# Altium footprint library 医疗床16x16.PcbLib: 31 footprints (part 2 of 2)
Each footprint in its own frame and in the unit in brackets; x right, y up, seen from the top. Pads: shape width x height; smd on the part's side, far side on the other; paste and mask are expansions set on the pad; w line width, h text height; cw(c..) or ccw(c..) is an arc to the next point about the centre after c.
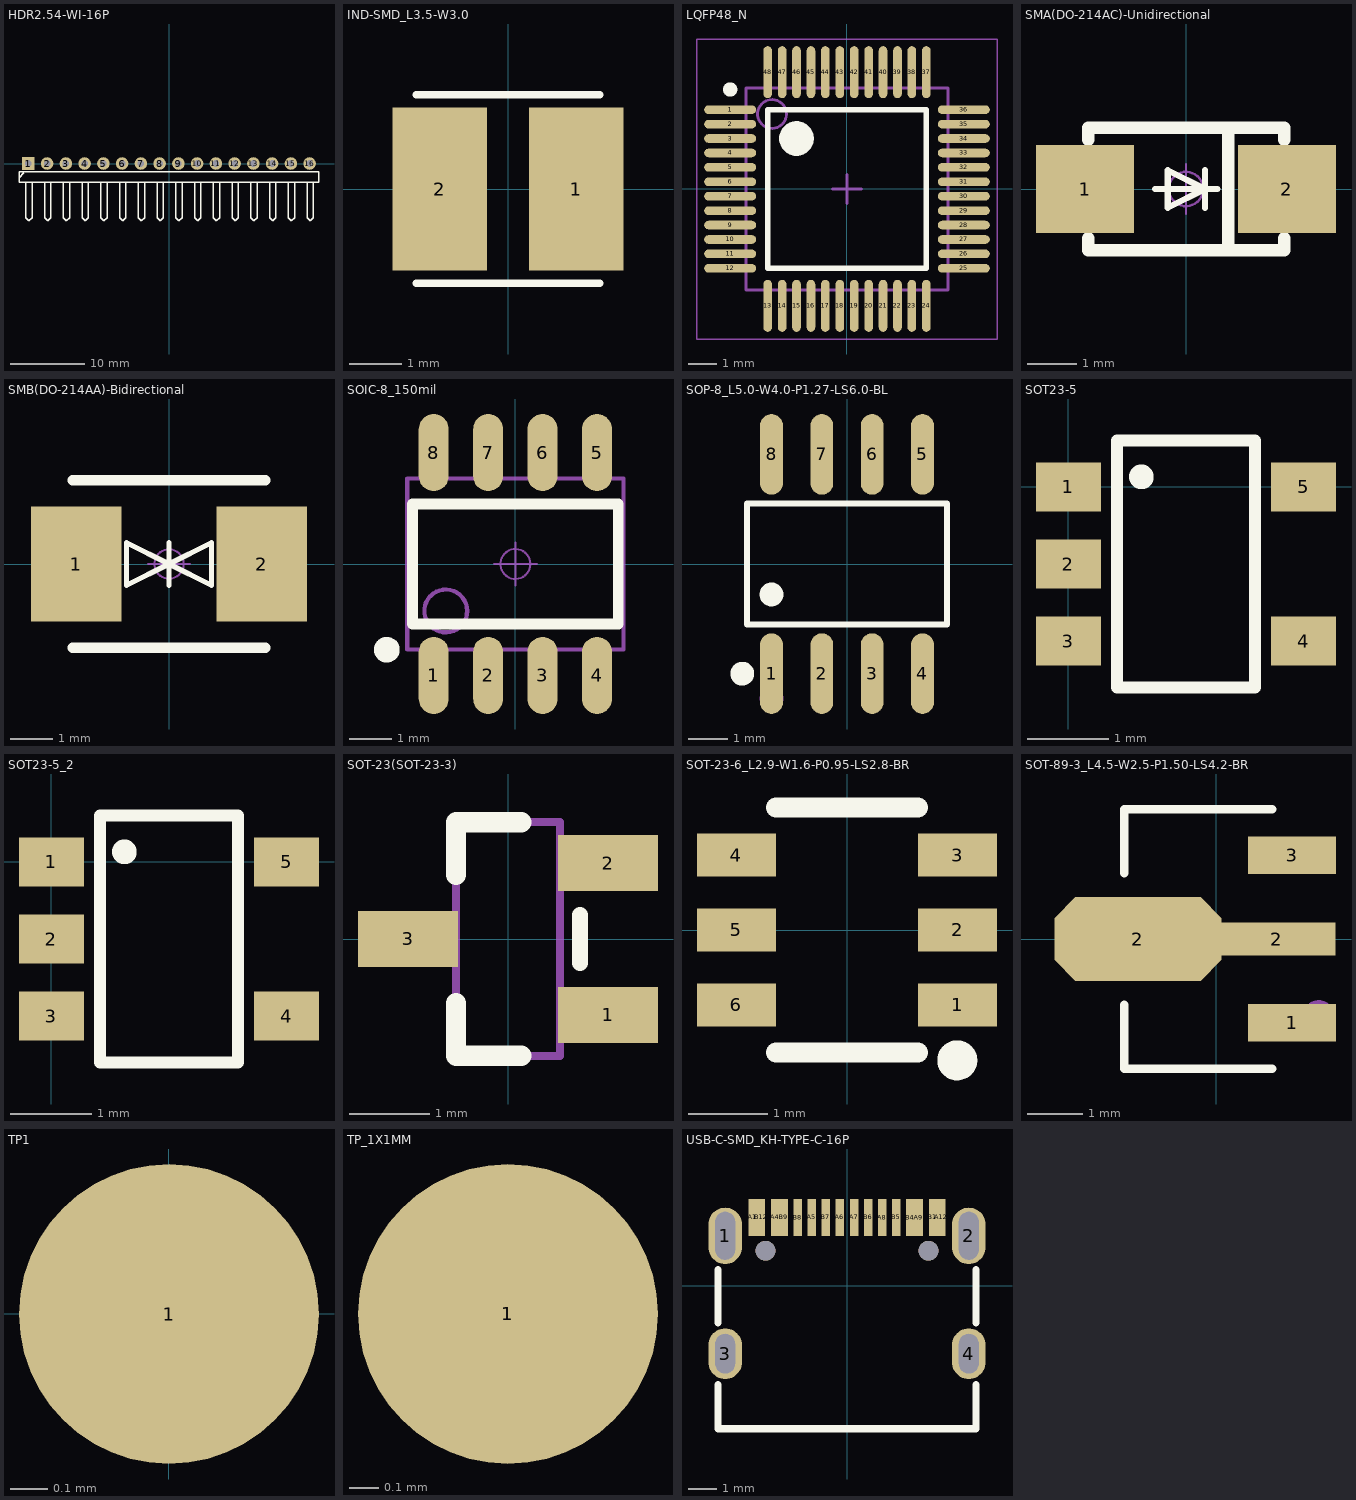
[diagram p1: the footprints below, top view; thin cyan lines are the x and y axes]

## HDR2.54-WI-16P [mm]
pads (16):
  rect 1.7x1.7 hole 0.9: 1(-19.05,0)
  round 1.7 hole 0.9: 2(-16.51,0) 3(-13.97,0) 4(-11.43,0) 5(-8.89,0) 6(-6.35,0) 7(-3.81,0) 8(-1.27,0) 9(1.27,0) 10(3.81,0) 11(6.35,0) 12(8.89,0) 13(11.43,0) 14(13.97,0) 15(16.51,0) 16(19.05,0)
Top Overlay:
  lines w0.2: -20.32,-1.905 -19.685,-1.27 ; -19.398,-2.54 -19.398,-7.332 -18.975,-7.755 -18.551,-7.332 -18.542,-7.323 ; -18.551,-7.323 -18.551,-2.54 ; -16.858,-2.54 -16.858,-7.332 -16.435,-7.755 -16.011,-7.332 ; -16.011,-7.323 -16.011,-2.54 ; -14.318,-2.54 -14.318,-7.332 -13.895,-7.755 -13.471,-7.332 ; -13.471,-7.323 -13.471,-2.54 ; -11.778,-2.54 -11.778,-7.332 -11.355,-7.755 -10.931,-7.332 ; -10.931,-7.323 -10.931,-2.54 ; -9.238,-2.54 -9.238,-7.332 -8.815,-7.755 -8.391,-7.332 ; -8.391,-7.323 -8.391,-2.54 ; -6.698,-2.54 -6.698,-7.332 -6.275,-7.755 -5.851,-7.332 ; -5.851,-7.323 -5.851,-2.54 ; -4.158,-2.54 -4.158,-7.332 -3.735,-7.755 -3.311,-7.332 ; -3.311,-7.323 -3.311,-2.54 ; -1.618,-2.54 -1.618,-7.332 -1.195,-7.755 -0.771,-7.332 ; -0.771,-7.323 -0.771,-2.54 ; 0.922,-2.54 0.922,-7.332 1.345,-7.755 1.769,-7.332 ; 1.769,-7.323 1.769,-2.54 ; 3.462,-2.54 3.462,-7.332 3.885,-7.755 4.309,-7.332 ; 4.309,-7.323 4.309,-2.54 ; 6.002,-2.54 6.002,-7.332 6.425,-7.755 6.849,-7.332 ; 6.849,-7.323 6.849,-2.54 ; 8.542,-2.54 8.542,-7.332 8.965,-7.755 9.389,-7.332 ; 9.389,-7.323 9.389,-2.54 ; 11.082,-2.54 11.082,-7.332 11.505,-7.755 11.929,-7.332 ; 11.929,-7.323 11.929,-2.54 ; 13.622,-2.54 13.622,-7.332 14.045,-7.755 14.469,-7.332 ; 14.469,-7.323 14.469,-2.54 ; 16.162,-2.54 16.162,-7.332 16.585,-7.755 17.009,-7.332 ; 17.009,-7.323 17.009,-2.54 ; 18.702,-2.54 18.702,-7.332 19.125,-7.755 19.549,-7.332 ; 19.549,-7.323 19.549,-2.54 ; -20.32,-2.54 -20.32,-1.143 -18.542,-1.143 20.32,-1.143 20.32,-2.54 -20.32,-2.54
3D body "HDR2.54-1P_H.STEP": height 4.85, standoff -3, extent -20.32,-7.77 -17.78,1.27
3D body "HDR2.54-1P_H.STEP": height 4.85, standoff -3, extent -17.78,-7.77 -15.24,1.27
3D body "HDR2.54-1P_H.STEP": height 4.85, standoff -3, extent -15.24,-7.77 -12.7,1.27
3D body "HDR2.54-1P_H.STEP": height 4.85, standoff -3, extent -12.7,-7.77 -10.16,1.27
3D body "HDR2.54-1P_H.STEP": height 4.85, standoff -3, extent -10.16,-7.77 -7.62,1.27
3D body "HDR2.54-1P_H.STEP": height 4.85, standoff -3, extent -7.62,-7.77 -5.08,1.27
3D body "HDR2.54-1P_H.STEP": height 4.85, standoff -3, extent -5.08,-7.77 -2.54,1.27
3D body "HDR2.54-1P_H.STEP": height 4.85, standoff -3, extent -2.54,-7.77 0,1.27
3D body "HDR2.54-1P_H.STEP": height 4.85, standoff -3, extent 0,-7.77 2.54,1.27
3D body "HDR2.54-1P_H.STEP": height 4.85, standoff -3, extent 2.54,-7.77 5.08,1.27
3D body "HDR2.54-1P_H.STEP": height 4.85, standoff -3, extent 5.08,-7.77 7.62,1.27
3D body "HDR2.54-1P_H.STEP": height 4.85, standoff -3, extent 7.62,-7.77 10.16,1.27
3D body "HDR2.54-1P_H.STEP": height 4.85, standoff -3, extent 10.16,-7.77 12.7,1.27
3D body "HDR2.54-1P_H.STEP": height 4.85, standoff -3, extent 12.7,-7.77 15.24,1.27
3D body "HDR2.54-1P_H.STEP": height 4.85, standoff -3, extent 15.24,-7.77 17.78,1.27
3D body "HDR2.54-1P_H.STEP": height 4.85, standoff -3, extent 17.78,-7.77 20.32,1.27

## IND-SMD_L3.5-W3.0 [mm]
pads (2):
  rect 1.8x3.12 smd: 1(1.303,0) 2(-1.303,0)
Top Overlay:
  lines w0.15: -1.75,-1.8 1.75,-1.8 ; -1.75,1.8 1.75,1.8
3D body "CD32.STEP": height 2.15, standoff 0.05, extent -1.682,-1.5 1.732,1.5

## LQFP48_N [mm]
pads (48):
  oval 1.8x0.3 smd: 1(-4.05,2.75) 2(-4.05,2.25) 3(-4.05,1.75) 4(-4.05,1.25) 5(-4.05,0.75) 6(-4.05,0.25) 7(-4.05,-0.25) 8(-4.05,-0.75) 9(-4.05,-1.25) 10(-4.05,-1.75) 11(-4.05,-2.25) 12(-4.05,-2.75) 25(4.05,-2.75) 26(4.05,-2.25) 27(4.05,-1.75) 28(4.05,-1.25) 29(4.05,-0.75) 30(4.05,-0.25) 31(4.05,0.25) 32(4.05,0.75) 33(4.05,1.25) 34(4.05,1.75) 35(4.05,2.25) 36(4.05,2.75)
  oval 0.3x1.8 smd: 13(-2.75,-4.05) 14(-2.25,-4.05) 15(-1.75,-4.05) 16(-1.25,-4.05) 17(-0.75,-4.05) 18(-0.25,-4.05) 19(0.25,-4.05) 20(0.75,-4.05) 21(1.25,-4.05) 22(1.75,-4.05) 23(2.25,-4.05) 24(2.75,-4.05) 37(2.75,4.05) 38(2.25,4.05) 39(1.75,4.05) 40(1.25,4.05) 41(0.75,4.05) 42(0.25,4.05) 43(-0.25,4.05) 44(-0.75,4.05) 45(-1.25,4.05) 46(-1.75,4.05) 47(-2.25,4.05) 48(-2.75,4.05)
Top Overlay:
  circle w0.25: c-4.05,3.45 r0.125
  circle w0.6: c-1.75,1.75 r0.3
  lines w0.2: -2.75,-2.75 -2.75,2.75 2.75,2.75 2.75,-2.75 -2.75,-2.75
Mechanical 13:
  circle w0.1: c-2.6,2.6 r0.5
  lines w0.1: -3.5,-3.5 -3.5,3.5 3.5,3.5 3.5,-3.5 -3.5,-3.5
Mechanical 15:
  lines w0.05: -5.2,-5.2 -5.2,5.2 5.2,5.2 5.2,-5.2 -5.2,-5.2
  lines w0.1: -0.5,0 0.5,0 ; 0,-0.5 0,0.5
3D body "LQFP48-7x7.STEP": height 1.45, standoff 0, extent -4.503,-4.503 4.503,4.503

## SMA(DO-214AC)-Unidirectional [mm]
pads (2):
  rect 2x1.8 smd: 1(-2.057,0) 2(2.057,0)
Top Overlay:
  lines w0.127: -0.627,0 0.643,0 ; 0.389,-0.381 0.389,0 ; 0.389,0.381 0.389,0 ; 0.389,0 -0.373,-0.381 -0.373,0 -0.373,0.381 0.389,0
  lines w0.254: -1.991,-1 -1.991,-1.25 2.007,-1.25 2.007,-1 ; -1.991,1 -1.991,1.25 2.007,1.25 2.007,1 ; 0.864,-1.245 0.864,1.245
Mechanical 15:
  circle w0.05: c0,0 r0.35
  lines w0.05: -0.5,0 0.5,0 ; 0,-0.5 0,0.5
3D body: height 1.27, standoff 0, extent -2.613,-2.591 2.461,2.489

## SMB(DO-214AA)-Bidirectional [mil]
pads (2):
  rect 85x108 smd: 1(-87,0) 2(87,0)
Top Overlay:
  lines w5: 0,-20 0,20 0,0 ; 0,0 -40,20 -40,-20 0,0 ; 0,0 40,-20 40,20 0,0
  lines w10: -90.55,-78.74 90.55,-78.74 ; -90.55,78.74 90.55,78.74
Mechanical 15:
  circle w1.97: c0,0 r13.78
  lines w1.97: -19.68,0 19.68,0 ; 0,-19.68 0,19.68
3D body: height 10, standoff 0, extent -110.23,-76.76 110.24,76.78

## SOIC-8_150mil [mm]
pads (8):
  oval 0.7x1.8 smd: 1(-1.905,-2.6) 2(-0.635,-2.6) 3(0.635,-2.6) 4(1.905,-2.6) 5(1.905,2.6) 6(0.635,2.6) 7(-0.635,2.6) 8(-1.905,2.6)
Top Overlay:
  circle w0.3: c-3,-2 r0.15
  lines w0.254: -2.4,-1.4 2.4,-1.4 2.4,1.4 -2.4,1.4 -2.4,-1.4
Mechanical 13:
  circle w0.1: c-1.625,-1.095 r0.5
  lines w0.1: -2.525,-1.995 2.525,-1.995 2.525,1.995 -2.525,1.995 -2.525,-1.995
Mechanical 15:
  circle w0.05: c0,0 r0.35
  lines w0.05: -0.5,0 0.5,0 ; 0,-0.5 0,0.5
3D body "SOP8.STEP": height 1.6, standoff 0, extent -2.51,-3.021 2.51,3.021

## SOP-8_L5.0-W4.0-P1.27-LS6.0-BL [mm]
pads (8):
  oval 0.574x2.036 smd: 1(-1.905,-2.768) 2(-0.635,-2.768) 3(0.635,-2.768) 4(1.905,-2.768) 5(1.905,2.768) 6(0.635,2.768) 7(-0.635,2.768) 8(-1.905,2.768)
Top Overlay:
  circle w0.3: c-2.644,-2.768 r0.15
  circle w0.3: c-1.905,-0.769 r0.15
  lines w0.152: -2.526,-1.521 2.526,-1.521 2.526,1.521 -2.526,1.521 -2.526,-1.521
Mechanical 15:
  circle w0.3: c-1.905,-3.398 r0.15
3D body "SOP8.STEP": height 1.6, standoff 0, extent -2.485,-2.945 2.535,3.097

## SOT23-5 [mm]
pads (5):
  rect 0.8x0.6 smd: 1(0,0) 2(0,-0.95) 3(0,-1.9) 4(2.9,-1.9) 5(2.9,0)
Top Overlay:
  circle w0.254: c0.9,0.125 r0.025
  lines w0.15: 0.6,-2.475 0.6,0.575 2.3,0.575 2.3,-2.475 0.6,-2.475
3D body "User Library-SOT23-5-2.STEP": height 1.45, standoff 0, extent 0.022,-2.415 2.822,0.485

## SOT23-5_2 [mm]
pads (5):
  rect 0.8x0.6 smd: 1(0,0) 2(0,-0.95) 3(0,-1.9) 4(2.9,-1.9) 5(2.9,0)
Top Overlay:
  circle w0.254: c0.9,0.125 r0.025
  lines w0.15: 0.6,-2.475 0.6,0.575 2.3,0.575 2.3,-2.475 0.6,-2.475
3D body "User Library-SOT23-5-2.STEP": height 1.45, standoff 0, extent 0.023,-2.415 2.822,0.485

## SOT-23(SOT-23-3) [mm]
pads (3):
  rect 1.25x0.7 smd: 1(1.25,-0.95) 2(1.25,0.95) 3(-1.25,0)
Top Overlay:
  lines w0.2: 0.9,-0.3 0.9,0.3
  lines w0.254: -0.65,-0.8 -0.65,-1.46 0.165,-1.46 ; 0.165,1.46 -0.65,1.46 ; -0.65,0.8 -0.65,1.46 ; -0.65,0.8 -0.65,1.46 ; -0.65,0.8 -0.65,1.46
Mechanical 13:
  lines w0.1: -0.65,-1.46 -0.65,1.46 ; -0.65,-1.46 0.65,-1.46 ; -0.65,-1.46 0.65,-1.46 ; -0.65,-1.46 -0.65,1.46 ; -0.65,-1.46 0.65,-1.46 ; -0.65,-1.46 -0.65,1.46 ; -0.65,1.46 0.65,1.46 ; -0.65,1.46 0.65,1.46 ; -0.65,1.46 0.65,1.46 ; 0.65,-1.46 0.65,1.46 ; 0.65,-1.46 0.65,1.46 ; 0.65,-1.46 0.65,1.46
3D body "SOT-23.step": height 1.3, standoff 0, extent -1.5,-1.5 1.5,1.5

## SOT-23-6_L2.9-W1.6-P0.95-LS2.8-BR [mm]
pads (6):
  rect 1x0.55 smd: 1(1.4,-0.95) 2(1.4,0) 3(1.4,0.95) 4(-1.4,0.95) 5(-1.4,0) 6(-1.4,-0.95)
Top Overlay:
  circle w0.254: c1.397,-1.651 r0.127
  lines w0.254: -0.9,-1.55 0.9,-1.55 ; -0.9,1.55 0.9,1.55
Mechanical 15:
  circle w0.2: c1.4,-0.95 r0.1
3D body "SOT23-6.STEP": height 1.15, standoff -0.03, extent -1.403,-1.5 1.403,1.5

## SOT-89-3_L4.5-W2.5-P1.50-LS4.2-BR [mm]
pads (4):
  rect 1.575x0.672 smd: 1(1.356,-1.5) 3(1.356,1.5)
  oct 3x1.5 smd: 2(-1.405,0)
  rect 2.1x0.6 smd: 2(1.084,0)
Top Overlay:
  lines w0.152: -1.65,-1.177 -1.65,-2.326 1.002,-2.326 ; -1.65,1.177 -1.65,2.326 1.002,2.326
Top Solder:
  region: -2.283,0.959 -0.429,0.959 -0.385,0.958 -0.34,0.955 -0.296,0.949 -0.252,0.942 -0.208,0.933 -0.165,0.921 -0.123,0.908 -0.081,0.893 -0.04,0.875 0,0.856 0.039,0.835 0.078,0.812 0.115,0.788 0.151,0.761 0.185,0.733 0.219,0.704 0.25,0.673 0.281,0.64 0.31,0.606 0.337,0.571 0.362,0.534 0.386,0.497 0.408,0.458 0.428,0.418 0.446,0.339 2.144,0.339 2.144,-0.321 0.446,-0.321 0.428,-0.401 0.408,-0.44 0.386,-0.479 0.362,-0.517 0.337,-0.553 0.31,-0.588 0.281,-0.622 0.25,-0.655 0.219,-0.686 0.185,-0.716 0.151,-0.744 0.115,-0.77 0.078,-0.795 0.039,-0.818 0,-0.839 -0.04,-0.858 -0.081,-0.875 -0.123,-0.89 -0.165,-0.904 -0.208,-0.915 -0.252,-0.925 -0.296,-0.932 -0.34,-0.937 -0.385,-0.94 -0.429,-0.941 -2.283,-0.941 -2.328,-0.94 -2.372,-0.937 -2.416,-0.932 -2.46,-0.925 -2.504,-0.915 -2.547,-0.904 -2.59,-0.89 -2.631,-0.875 -2.672,-0.858 -2.713,-0.839 -2.752,-0.818 -2.79,-0.795 -2.827,-0.77 -2.863,-0.744 -2.898,-0.716 -2.931,-0.686 -2.963,-0.655 -2.993,-0.622 -3.022,-0.588 -3.049,-0.553 -3.075,-0.517 -3.098,-0.479 -3.12,-0.44 -3.141,-0.401 -3.159,-0.36 -3.175,-0.318 -3.19,-0.276 -3.202,-0.233 -3.212,-0.19 -3.221,-0.146 -3.227,-0.102 -3.231,-0.058 -3.233,-0.013 -3.233,0.031 -3.231,0.076 -3.227,0.12 -3.221,0.164 -3.212,0.208 -3.202,0.251 -3.19,0.294 -3.175,0.336 -3.159,0.377 -3.141,0.418 -3.12,0.458 -3.098,0.497 -3.075,0.534 -3.049,0.571 -3.022,0.606 -2.993,0.64 -2.963,0.673 -2.931,0.704 -2.898,0.733 -2.863,0.761 -2.827,0.788 -2.79,0.812 -2.752,0.835 -2.713,0.856 -2.672,0.875 -2.631,0.893 -2.59,0.908 -2.547,0.921 -2.504,0.933 -2.46,0.942 -2.416,0.949 -2.372,0.955 -2.328,0.958
Mechanical 15:
  circle w0.3: c1.832,-1.397 r0.15
  circle w0.05: c-0.313,0 r0.35
  lines w0.05: -0.813,0 0.187,0 ; -0.313,-0.5 -0.313,0.5
3D body "SOT89.STEP": height 1.6, standoff 0.04, extent -2.506,-2.286 1.794,2.314

## TP1 [mm]
pads (1):
  round 0.8 smd: 1(0,0)

## TP_1X1MM [mm]
pads (1):
  round 1 smd: 1(-1267.968,-1268.501)

## USB-C-SMD_KH-TYPE-C-16P [mm]
pads (22):
  oval 1.2x2 hole 0.7 slot 1.7 at 90 deg: 1(-4.32,1.765) 2(4.32,1.765)
  oval 1.2x1.8 hole 0.7 slot 1.4 at 90 deg: 3(-4.32,-2.415) 4(4.32,-2.415)
  rect 0.3x1.3 smd: A1(-3.35,2.415) A4(-2.55,2.415) A5(-1.25,2.415) A6(-0.25,2.415) A7(0.25,2.415) A8(1.25,2.415) A9(2.55,2.415) A12(3.35,2.415) B1(3.05,2.415) B4(2.25,2.415) B5(1.75,2.415) B6(0.75,2.415) B7(-0.75,2.415) B8(-1.75,2.415) B9(-2.25,2.415) B12(-3.05,2.415)
  round 0.7 hole 0.7 unplated: ""(-2.89,1.235) ""(2.89,1.235)
Top Overlay:
  lines w0.254: -4.572,-3.507 -4.572,-5.08 4.572,-5.08 4.572,-3.507 ; -4.572,-1.323 -4.572,0.573 ; 4.572,-1.323 4.572,0.573
Top Paste:
  region: -3.45,3.01 -2.95,3.01 -2.95,1.82 -3.45,1.82
  region: 2.95,3.01 3.45,3.01 3.45,1.82 2.95,1.82
  region: 2.15,3.01 2.65,3.01 2.65,1.82 2.15,1.82
  region: -2.65,3.01 -2.15,3.01 -2.15,1.82 -2.65,1.82
  region: 1.6,3.06 1.9,3.06 1.9,1.77 1.6,1.77
  region: 0.1,3.06 0.4,3.06 0.4,1.77 0.1,1.77
  region: -0.4,3.06 -0.1,3.06 -0.1,1.77 -0.4,1.77
  region: -0.9,3.06 -0.6,3.06 -0.6,1.77 -0.9,1.77
  region: -1.43,3.025 -1.13,3.025 -1.13,1.735 -1.43,1.735
  region: -1.9,3.06 -1.6,3.06 -1.6,1.77 -1.9,1.77
  region: 0.6,3.06 0.9,3.06 0.9,1.77 0.6,1.77
  region: 1.1,3.06 1.4,3.06 1.4,1.77 1.1,1.77
  region: -4.92,2.165 -4.92,2.284 -4.828,2.505 -4.66,2.674 -4.439,2.765 -4.2,2.765 -3.98,2.674 -3.811,2.505 -3.72,2.284 -3.72,2.165 -3.72,1.365 -3.72,1.246 -3.811,1.025 -3.98,0.856 -4.2,0.765 -4.439,0.765 -4.66,0.856 -4.828,1.025 -4.92,1.246 -4.92,1.365
  region: -4.92,-2.115 -4.92,-1.996 -4.828,-1.775 -4.66,-1.607 -4.439,-1.515 -4.2,-1.515 -3.98,-1.607 -3.811,-1.775 -3.72,-1.996 -3.72,-2.115 -3.72,-2.715 -3.72,-2.835 -3.811,-3.055 -3.98,-3.224 -4.2,-3.315 -4.439,-3.315 -4.66,-3.224 -4.828,-3.055 -4.92,-2.835 -4.92,-2.715
  region: 3.72,2.165 3.722,2.283 3.814,2.502 3.983,2.668 4.202,2.758 4.439,2.758 4.658,2.668 4.827,2.502 4.919,2.283 4.92,2.165 4.92,1.365 4.919,1.246 4.827,1.028 4.658,0.862 4.439,0.772 4.202,0.772 3.983,0.862 3.814,1.028 3.722,1.246 3.72,1.365
  region: 3.72,-2.115 3.722,-1.997 3.814,-1.779 3.983,-1.612 4.202,-1.522 4.439,-1.522 4.658,-1.612 4.827,-1.779 4.919,-1.997 4.92,-2.115 4.92,-2.715 4.919,-2.834 4.827,-3.052 4.658,-3.218 4.439,-3.308 4.202,-3.308 3.983,-3.218 3.814,-3.052 3.722,-2.834 3.72,-2.715